# Altium schematic symbol library TPS73XX.SchLib: 1 symbol
Pins are listed as number, name and electrical type; pins without a type are passive.

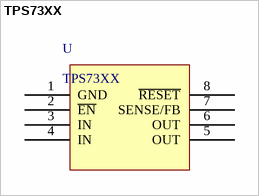
[diagram p0: symbol TPS73XX]

## TPS73XX
designator U
pins: 1 GND, 2 ~{EN}, 3 IN, 4 IN, 5 OUT, 6 OUT, 7 SENSE/FB, 8 ~{RESET}